# EAGLE library part 74HCT125 (library 74HCT125)
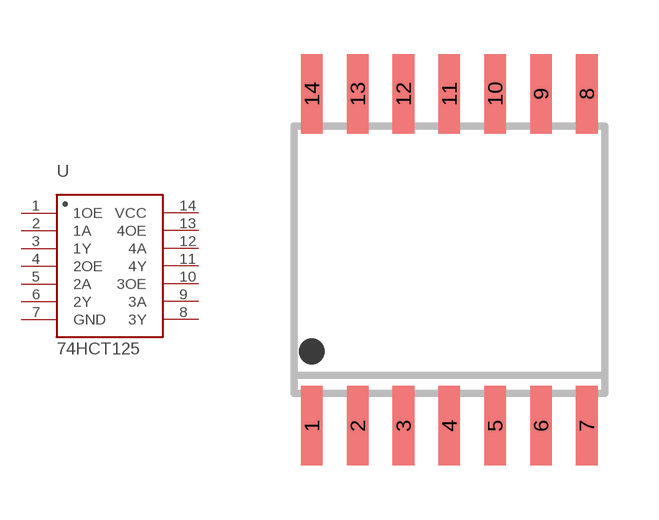
[diagram p0: symbol with the pads of SO-14DW; footprint SO-14DW]

Designator prefix -

## 74HCT125  [SO-14DW]
1  1OE
2  1A
3  1Y
4  2OE
5  2A
6  2Y
7  GND
8  3Y
9  3A
10  3OE
11  4Y
12  4A
13  4OE
14  VCC

## Footprint SO-14DW (pad centres in mm)
Small Outline Integrated Circuit wide
smd 0.6 x 2.2: 1 -3.81,-4.6; 2 -2.54,-4.6; 3 -1.27,-4.6; 4 0,-4.6; 5 1.27,-4.6; 6 2.54,-4.6; 7 3.81,-4.6; 8 3.81,4.6; 9 2.54,4.6; 10 1.27,4.6; 11 0,4.6; 12 -1.27,4.6; 13 -2.54,4.6; 14 -3.81,4.6